# Altium schematic symbol library intersil-interface.SchLib: 3 symbols
Pins are listed as number, name and electrical type; pins without a type are passive.

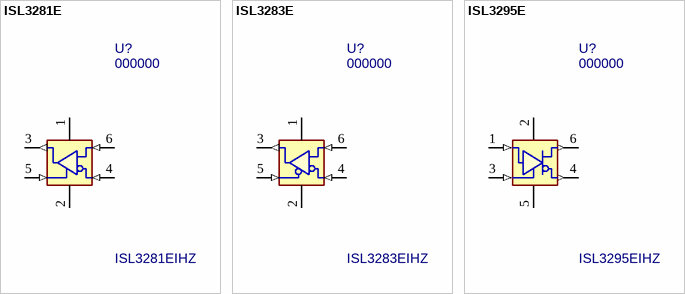
[diagram p0: symbols ISL3281E to ISL3295E]

## ISL3281E
designator U?, comment 000000  value ISL3281EIHZ
RS-485/RS-422 Receiver; MF: Intersil; PN: 000000; Package: SOT23-6; ExtraInfo: *
footprint SOT-23-6-M (6-Lead Plastic Small Outline Transistor - Medium Density)
footprint SOT23-6-H (6-Lead Plastic Small Outline Transistor - High Density)
pins: 1 VCC (power), 2 GND (power), 3 RO (out), 4 B (in), 5 RE (in), 6 A (in)

## ISL3283E
designator U?, comment 000000  value ISL3283EIHZ
RS-485/RS-422 Receiver; MF: Intersil; PN: 000000; Package: SOT23-6; ExtraInfo: *
footprint SOT-23-6-M (6-Lead Plastic Small Outline Transistor - Medium Density)
footprint SOT23-6-H (6-Lead Plastic Small Outline Transistor - High Density)
pins: 1 VCC (power), 2 GND (power), 3 RO (out), 4 B (in), 5 ~{RE} (in), 6 A (in)

## ISL3295E
designator U?, comment 000000  value ISL3295EIHZ
RS-485/RS-422 Transmitter; MF: Intersil; PN: 000000; Package: SOT23-6; ExtraInfo: *
footprint SOT-23-6-M (6-Lead Plastic Small Outline Transistor - Medium Density)
footprint SOT23-6-H (6-Lead Plastic Small Outline Transistor - High Density)
pins: 1 DI (in), 2 VCC (power), 3 DE (in), 4 Z (out), 5 GND (power), 6 Y (out)